# Altium footprint library Capatitor.PcbLib: 27 footprints (part 1 of 2)
Each footprint in its own frame and in the unit in brackets; x right, y up, seen from the top. Pads: shape width x height; smd on the part's side, far side on the other; paste and mask are expansions set on the pad; w line width, h text height; cw(c..) or ccw(c..) is an arc to the next point about the centre after c.
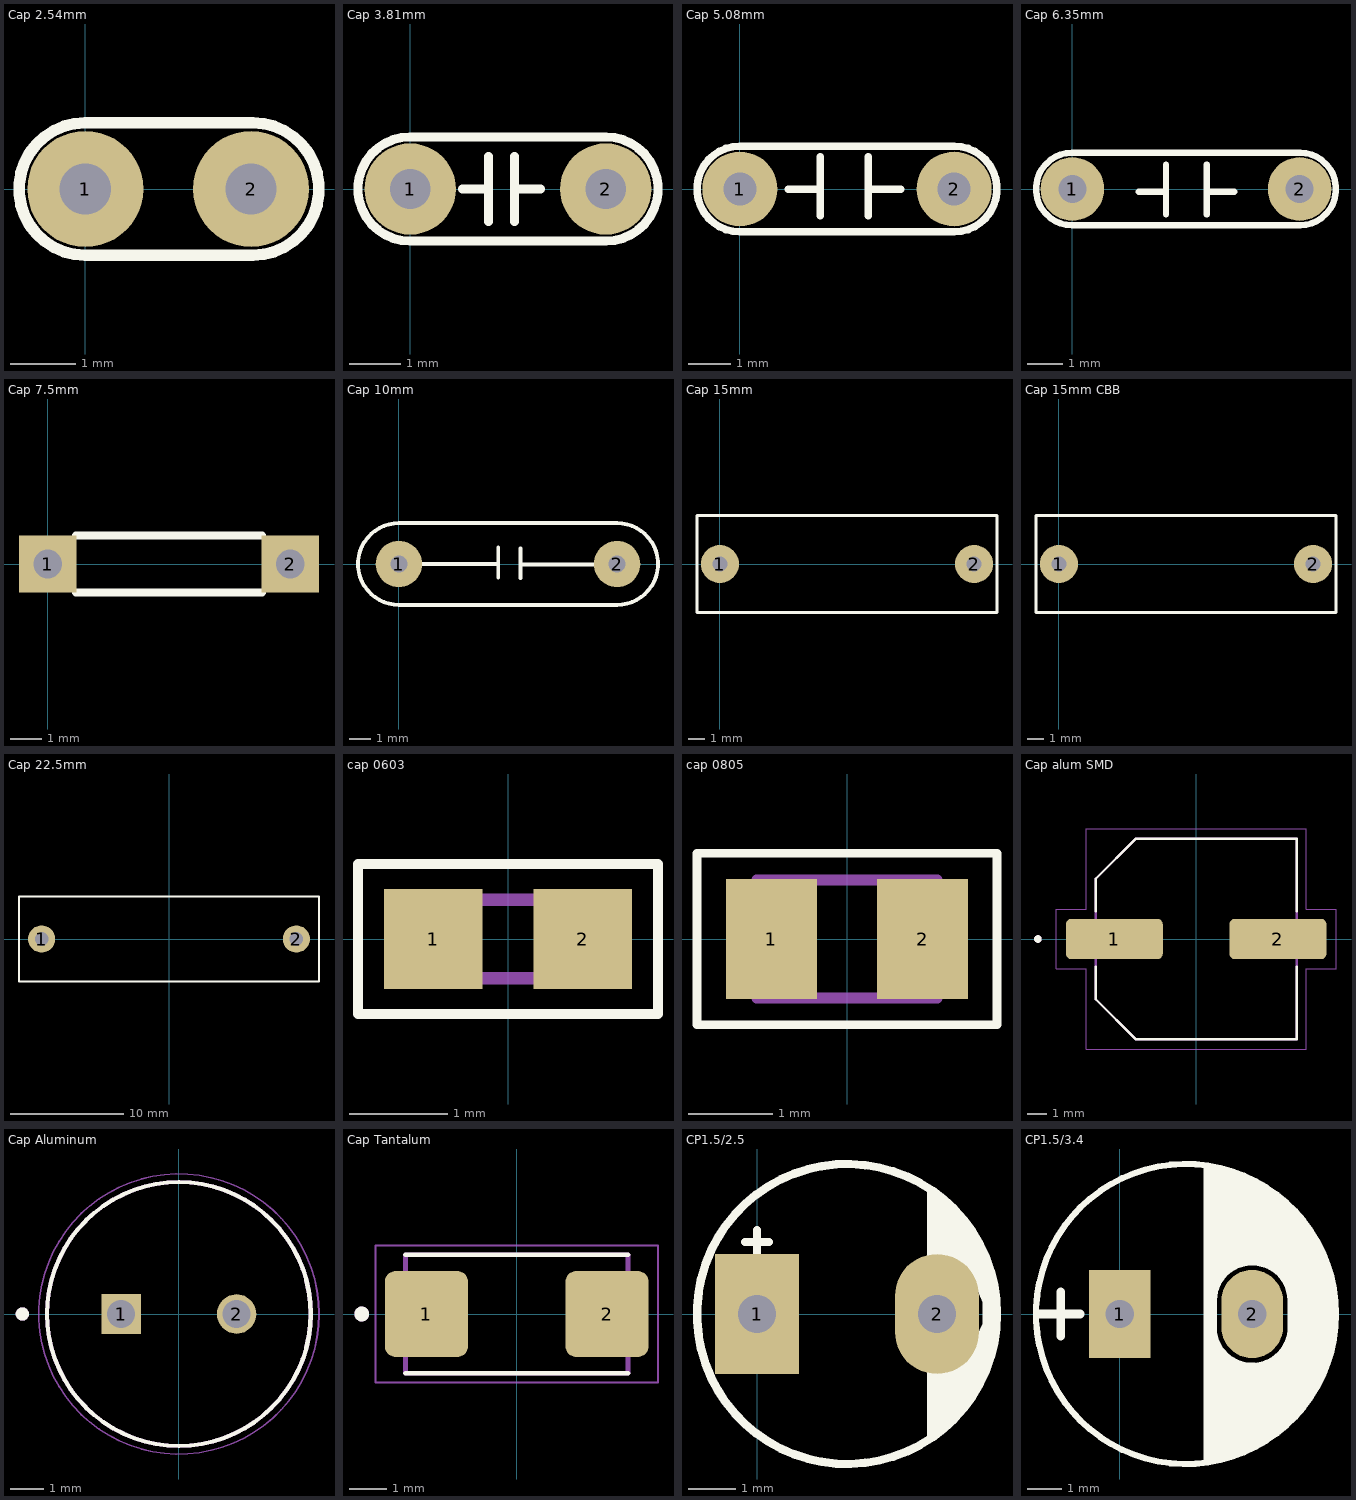
[diagram p0: the footprints below, top view; thin cyan lines are the x and y axes]

## Cap 2.54mm [mil]
height 200
pads (2):
  round 70 hole 31: 1(0,0) 2(100,0)
Top Overlay:
  lines w7: 100,-40 0,-40 cw(c0,0) 0,40 100,40 ; 101,-40 ccw(c101,0) 101,40
3D body "SW3dPS-Cap 100n.STEP": height 265, standoff -46.85, extent -59.93,-30 169.93,36.79

## Cap 3.81mm [mil]
height 200
pads (2):
  round 70 hole 31: 1(0,0) 2(150,0)
Top Overlay:
  lines w7: 40,0 60,0 ; 60,-25 60,25 ; 80,-25 80,25 ; 80,0 100,0 ; 0,-40 cw(c0,0) 0,40 150,40 cw(c150,0) 150,-40 0,-40
3D body "User Library-6mm radial ceramic disc capacitor.STEP": height 988.96, standoff -334.65, extent -41.22,-70 195,79.61

## Cap 5.08mm [mil]
height 200
pads (2):
  round 70 hole 31: 1(0,0) 2(200,0)
Top Overlay:
  lines w7: 45,0 75,0 ; 75,-25 75,30 ; 120,-25 120,30 ; 120,0 150,0 ; 0,-40 cw(c0,0) 0,40 200,40 cw(c200,0) 200,-40 0,-40
3D body "SW3DPS-TANT_2M_2M-DEFAULT.STEP": height 422.7, standoff -70, extent -25.5,-125 225.5,125.62

## Cap 6.35mm [mil] "Tu pin to pin 250mil"
height 200
pads (2):
  round 70 hole 31: 1(0,0) 2(250,0)
Top Overlay:
  lines w7: 73,-3 103,-3 ; 103,-28 103,27 ; 148,-28 148,27 ; 148,-3 178,-3 ; 250,-40 ccw(c250,0) 250,40 ; 250.94,-40 0,-40 cw(c0,0) 0,40 250.94,40
3D body "User Library-6mm radial ceramic disc capacitor.STEP": height 988.96, standoff -334.65, extent 6.89,-74.8 243.11,74.8

## Cap 7.5mm [mm] "103 2KV"
pads (2):
  rect 1.8x1.8 hole 0.9: 1(0,0) 2(7.62,0)
Top Overlay:
  lines w0.254: 0.889,-0.889 6.731,-0.889 ; 0.889,0.889 6.731,0.889
3D body "User Library-Panasonic ECK-A3D102KBP.step": height 9.03, standoff -4.16, extent -0.19,-1.198 7.811,1.195

## Cap 10mm [mil] "Cap np W 0.4"
height 200
pads (2):
  round 85 hole 31: 1(0,0) 2(400,0)
Top Overlay:
  lines w7: 44,0 182,0 ; 182,-25 182,30 ; 223,-26 223,29 ; 223,-1 360,-1 ; 399,75 0,75 ccw(c0,0) 0,-75 400,-75 ccw(c400,0) 400,75
3D body "ECQ-E6103KF.stp": height 236.22, standoff -118.11, extent -24.54,-63.98 430.82,63.98

## Cap 15mm [mil]
height 100
pads (2):
  round 90 hole 35: 1(0,0) 2(600,0)
Top Overlay:
  lines w7: -54,-115 654,-115 654,115 -54,115 -54,-115
3D body "SW3dPS-cap_r60_pi3100d0j.STEP": height 731.5, standoff -488.98, extent -54.33,-145.28 654.33,150

## Cap 15mm CBB [mil]
height 100
pads (2):
  round 90 hole 35: 1(0,0) 2(600,0)
Top Overlay:
  lines w7: -54,-115 654,-115 654,115 -54,115 -54,-115
3D body "freecad_film_capacitor.step": height 629.92, standoff -196.85, extent -54.33,-155 654.33,159.96

## Cap 22.5mm [mm]
height 2.54
pads (2):
  round 2.4 hole 1.2: 1(-11.25,0) 2(11.25,0)
Top Overlay:
  lines w0.178: -13.25,-3.75 13.25,-3.75 13.25,3.75 -13.25,3.75 -13.25,-3.75
3D body "FILM_RED_P2250L2650W700H1650PD80.step": height 16.5, standoff -6.2, extent -13.25,-3.5 13.25,3.5

## cap 0603 [mm]
height 1
pads (2):
  rect 1x1.02 smd: 1(-0.76,0) 2(0.76,0)
Top Overlay:
  lines w0.102: -0.762,-0.762 0.762,-0.762 ; 0.762,-0.762 -1.524,-0.762 -1.524,0.762 -0.762,0.762 0.762,0.762 1.524,0.762 1.524,-0.762 0.762,-0.762
Mechanical 13:
  lines w0.127: -0.8,-0.4 0.8,-0.4 0.8,0.4 -0.8,0.4 -0.8,-0.4
Mechanical 15:
  lines w0.05: -1.51,-0.76 1.51,-0.76 1.51,0.76 -1.51,0.76 -1.51,-0.76
3D body "step_temp.STEP": height 1, standoff 0, extent -0.8,-0.4 0.8,0.4

## cap 0805 [mm]
pads (2):
  rect 1.08x1.42 smd: 1(-0.895,0) 2(0.895,0)
Top Overlay:
  lines w0.102: -1.778,-1.016 -1.778,1.016 1.778,1.016 1.778,-1.016 -1.778,-1.016
Mechanical 13:
  lines w0.127: -1.07,-0.7 1.07,-0.7 1.07,0.7 -1.07,0.7 -1.07,-0.7
3D body "step_temp.STEP": height 1.4, standoff 0, extent -1,-0.625 1,0.625

## Cap alum SMD [mm]
pads (2):
  rrect25% 5.06x2.11 smd: 1(-4.275,0) 2(4.275,0)
Top Overlay:
  circle w0.2: c-8.27,0 r0.1
  lines w0.127: -5.25,-1.44 -5.25,-3.15 -3.15,-5.25 5.25,-5.25 5.25,-1.44 ; -5.25,1.44 -5.25,3.15 -3.15,5.25 5.25,5.25 5.25,1.44
Mechanical 13:
  circle w0.2: c-8.27,0 r0.1
  lines w0.127: -5.25,-3.15 -5.25,3.15 -3.15,5.25 5.25,5.25 5.25,-5.25 -3.15,-5.25 -5.25,-3.15
Mechanical 15:
  lines w0.05: -7.31,-1.56 -5.75,-1.56 -5.75,-5.75 5.75,-5.75 5.75,-1.56 7.31,-1.56 7.31,1.56 5.75,1.56 5.75,5.75 -5.75,5.75 -5.75,1.56 -7.31,1.56 -7.31,-1.56
3D body "step_temp.STEP": height 10.5, standoff 0, extent -6.05,-5.25 6.05,5.25

## Cap Aluminum [mm]
pads (2):
  rect 1.2x1.2 hole 0.85: 1(-1.75,0)
  round 1.2 hole 0.85: 2(1.75,0)
Top Overlay:
  circle w0.2: c-4.75,0 r0.1
  circle w0.127: c0,0 r4
Mechanical 13:
  circle w0.2: c-4.75,0 r0.1
  circle w0.127: c0,0 r4
Mechanical 15:
  circle w0.05: c0,0 r4.25
3D body "step_temp.STEP": height 11.5, standoff -17, extent -4,-4 4,4

## Cap Tantalum [mm] "Capacitor;TantalumCap 22 uF"
height 2.8
pads (2):
  rrect25% 2.24x2.32 smd: 1(-2.435,0) 2(2.435,0)
Top Overlay:
  circle w0.2: c-4.18,0 r0.1
  lines w0.127: -3,-1.6 3,-1.6 ; -3,1.6 3,1.6
Mechanical 13:
  circle w0.2: c-4.18,0 r0.1
  lines w0.127: -3,-1.6 3,-1.6 3,1.6 -3,1.6 -3,-1.6
Mechanical 15:
  lines w0.05: -3.81,-1.85 3.81,-1.85 3.81,1.85 -3.805,1.85 -3.81,-1.85
3D body "step_temp.STEP": height 2.8, standoff 0, extent -3,-1.6 3,1.6

## CP1.5/2.5 [mil] "Tu hoa 33 >100 uF,50V, 220uF/16V,25V ( it su dung )"
height 300
pads (2):
  rect 70x100 hole 32: 1(0,0)
  oval 70x100 hole 32: 2(150,0)
Top Overlay:
  circle w7: c75,0 r125
  region: 142,106 142,39 156,39 173,35 182,25 188,10 188,-8 183,-19 183,-19.53 171,-33 155,-38 142,-41 142,-107 156,-96 177,-72 194,-40 199,-14 200,0 198,24 189,50 175,74 160,93
  lines w7: -10,60 10,60 ; 0,50 0,70
3D body "User Library-Cap 6_3x11.STEP": height 421.54, standoff -759.57, extent -49.02,-125.03 199.02,123

## CP1.5/3.4 [mil] "Tu hoa 220->470uF,16V, 470uF/16V,25V"
height 300
pads (2):
  rect 70x100 hole 32: 1(0,0)
  oval 70x100 hole 32: 2(150,0)
Top Overlay:
  circle w7: c75,0 r170
  region: 100,25 135,60 162.93,60.33 169.59,59.01 175.24,55.24 175,55 181.63,48.7 184.3,44.71 185.24,40 185,40 190.24,35.24 194.01,29.59 195.33,22.93 195,22.93 195.33,-27.93 194.01,-34.59 190.24,-40.24 190,-40 178.7,-51.63 174.71,-54.3 170,-55.24 170.24,-55.24 164.59,-59.01 157.93,-60.33 157.93,-60 144.14,-60.29 135.23,-59.12 126.92,-55.68 119.79,-50.21 120,-50 108.37,-38.7 105.7,-34.71 104.76,-30 105,-30 100,-30 100,-170 155,-150 195,-120 225,-80 245,-20 245,20 230,70 200,115 165,145 120,165 100,170
  lines w10: -90,0 -45,0 ; -67,-25 -67,25 ; 100,-165 100,165 ; 100,25 105,25 ; 105,-20 105,30 ; 105,-10 ccw(c150,-15) 145,-60 ccw(c150,-15) 195,-20 195,15 ccw(c150,15) 150,60 ccw(c150,15) 105,15
3D body "User Library-CAP 8X11_5.STEP": height 445.89, standoff -754.41, extent -84.96,-157.48 230,157.48